# EAGLE library part DF13-6P-D (library con-Hirose)
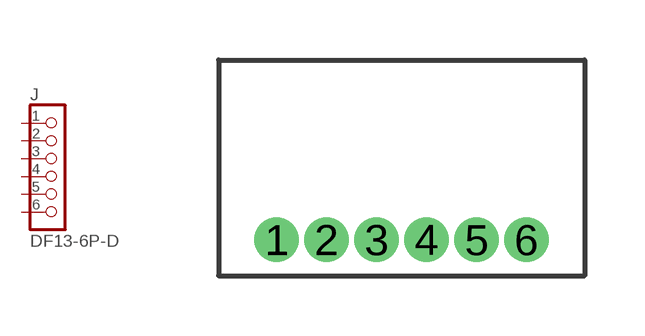
[diagram p8: symbol with the pads of DF13-6P-1.25DS; footprint DF13-6P-1.25DS]

Designator prefix J

## DF13-6P-DH  [DF13-6P-1.25DS]
1  1  pas
2  2  pas
3  3  pas
4  4  pas
5  5  pas
6  6  pas

## Footprint DF13-6P-1.25DS (pad centres in mm)
drill 0.6: 1 -3.125,-1.8; 2 -1.875,-1.8; 3 -0.625,-1.8; 4 0.625,-1.8; 5 1.875,-1.8; 6 3.125,-1.8